# EAGLE library part ESP8266EX (library df4iah_rf)
Espressif ESP8266EX Wi-Fi Key Features 802.11 b/g/n support 802.11n support (2.4 GHz), up to 72.2 Mbps Defragmentation 2 x virtual Wi-Fi interface Automatic beacon monitoring (hardware TSF) Support Infrastructure BSS Station mode/SoftAP mode/Promiscuous mode Antenna diversity
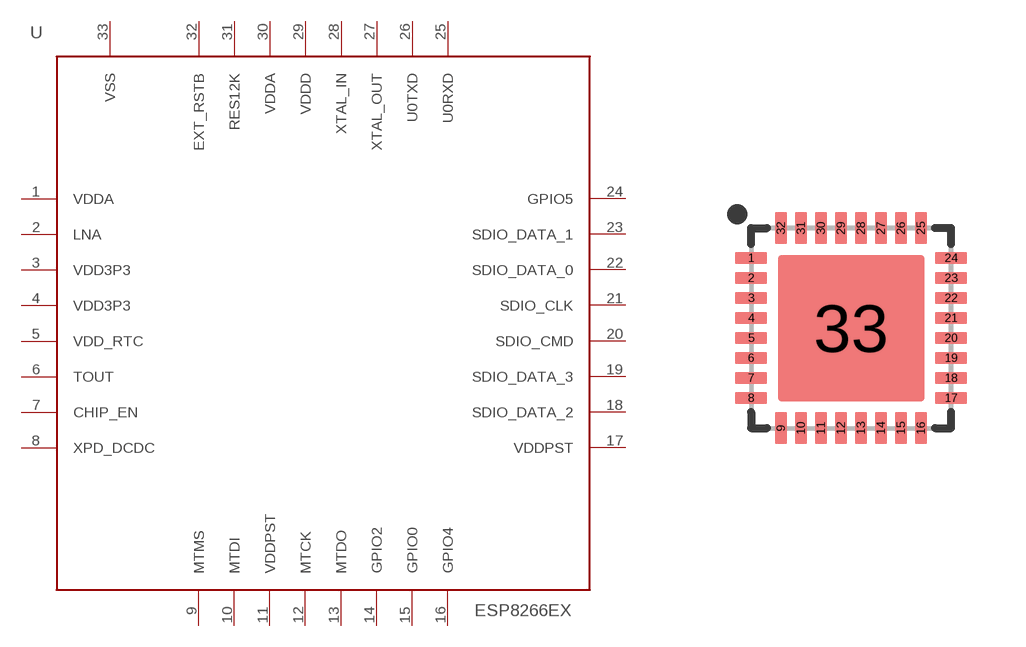
[diagram p5: symbol with the pads of QFN32_5X5-0P5-PAD; footprint QFN32_5X5-0P5-PAD]

Designator prefix U

## ESP8266EX  [QFN32_5X5-0P5-PAD]
1  VDDA  pwr
2  LNA
3  VDD3P3  pwr
4  VDD3P3  pwr
5  VDD_RTC  pwr
6  TOUT  in
7  CHIP_EN  in
8  XPD_DCDC
9  MTMS
10  MTDI
11  VDDPST  pwr
12  MTCK
13  MTDO
14  GPIO2
15  GPIO0
16  GPIO4
17  VDDPST  pwr
18  SDIO_DATA_2
19  SDIO_DATA_3
20  SDIO_CMD
21  SDIO_CLK
22  SDIO_DATA_0
23  SDIO_DATA_1
24  GPIO5
25  U0RXD
26  U0TXD
27  XTAL_OUT  pas
28  XTAL_IN  pas
29  VDDD  pwr
30  VDDA  pwr
31  RES12K  pas
32  EXT_RSTB  in
33  VSS  pas

## Footprint QFN32_5X5-0P5-PAD (pad centres in mm)
32-Pin QFN - 5.0 x 5.0 mm - 0.5P - with center pad
smd 0.8 x 0.3: 1 -2.5,1.75; 2 -2.5,1.25; 3 -2.5,0.75; 4 -2.5,0.25; 5 -2.5,-0.25; 6 -2.5,-0.75; 7 -2.5,-1.25; 8 -2.5,-1.75; 17 2.5,-1.75; 18 2.5,-1.25; 19 2.5,-0.75; 20 2.5,-0.25; 21 2.5,0.25; 22 2.5,0.75; 23 2.5,1.25; 24 2.5,1.75
smd 0.3 x 0.8: 9 -1.75,-2.5; 10 -1.25,-2.5; 11 -0.75,-2.5; 12 -0.25,-2.5; 13 0.25,-2.5; 14 0.75,-2.5; 15 1.25,-2.5; 16 1.75,-2.5; 25 1.75,2.5; 26 1.25,2.5; 27 0.75,2.5; 28 0.25,2.5; 29 -0.25,2.5; 30 -0.75,2.5; 31 -1.25,2.5; 32 -1.75,2.5
smd 3.65 x 3.65: 33 0,0